# Altium footprint library urover.PCBLIB: 175 footprints (part 10 of 11)
Each footprint in its own frame and in the unit in brackets; x right, y up, seen from the top. Pads: shape width x height; smd on the part's side, far side on the other; paste and mask are expansions set on the pad; w line width, h text height; cw(c..) or ccw(c..) is an arc to the next point about the centre after c.
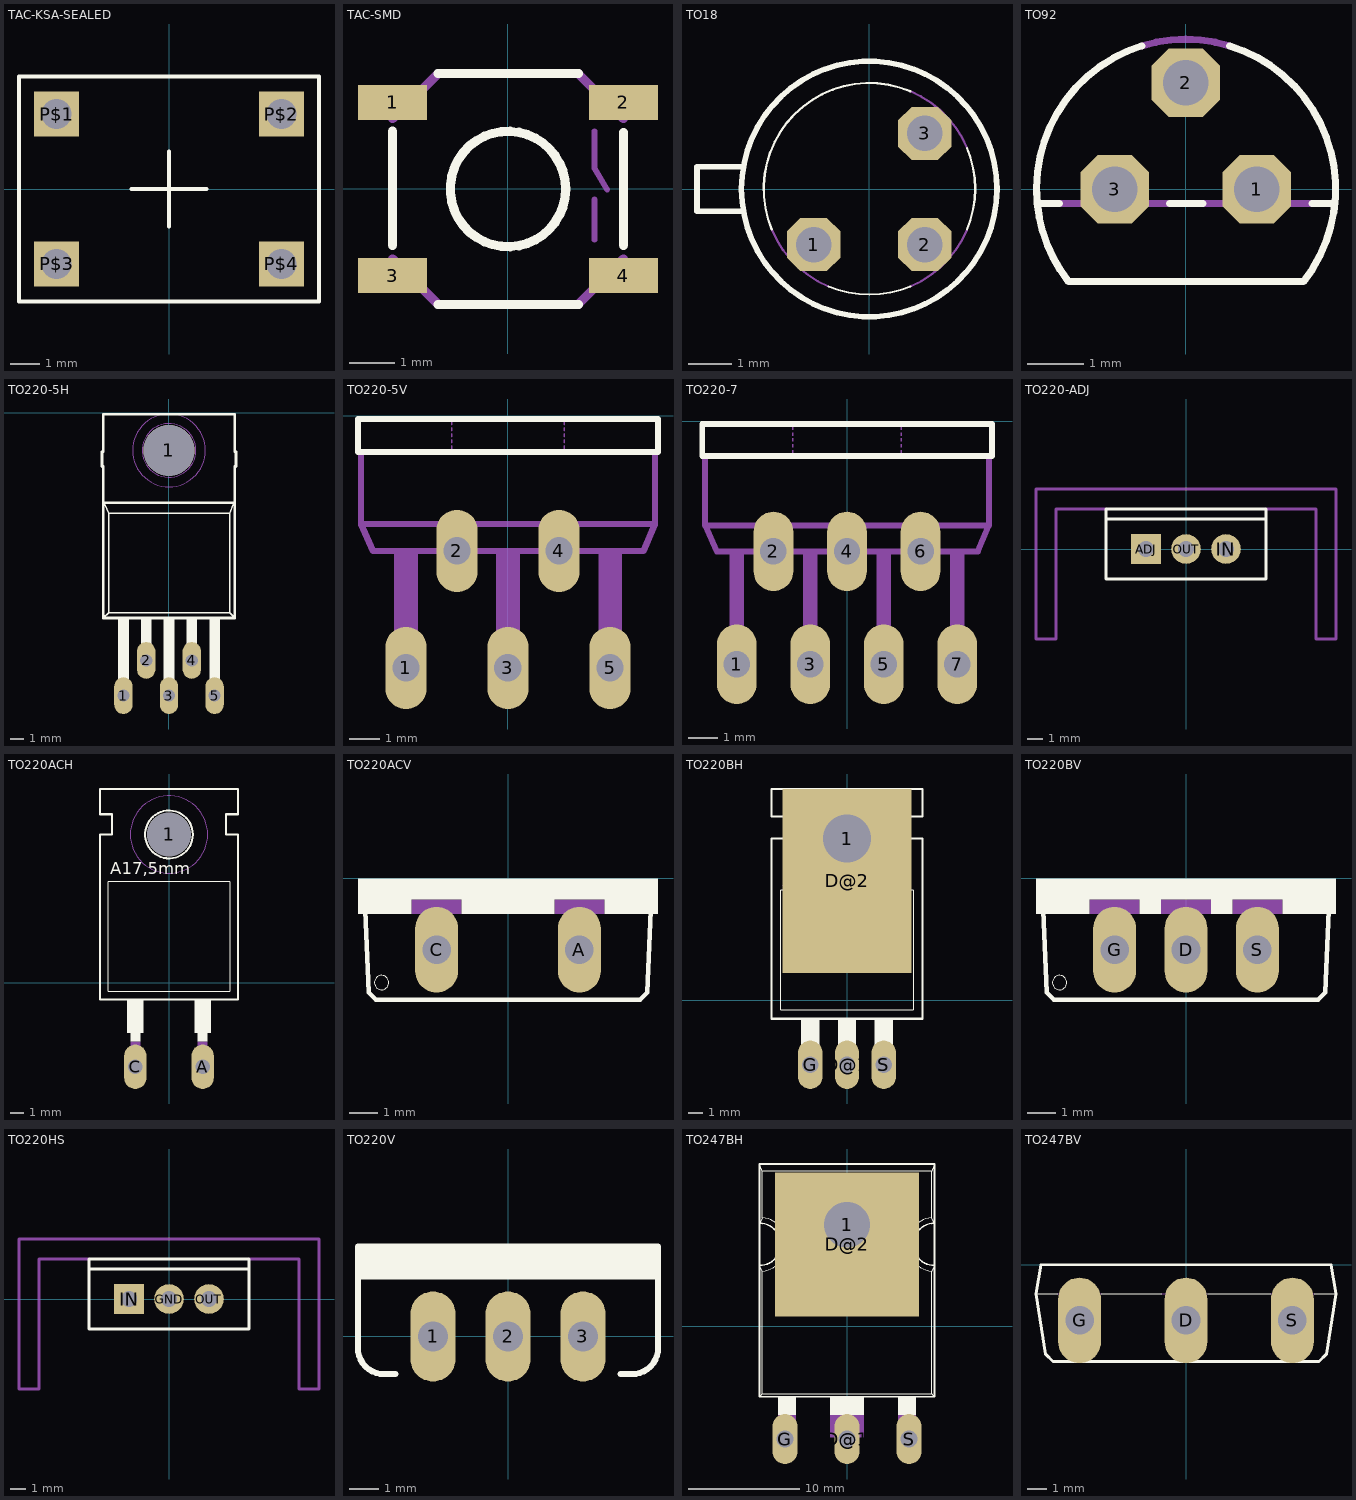
[diagram p9: the footprints below, top view; thin cyan lines are the x and y axes]

## TAC-KSA-SEALED [mil]
pads (4):
  rect 60x60 hole 40: P$1(-150,100) P$2(150,100) P$3(-150,-100) P$4(150,-100)
Top Overlay:
  lines w5: -50,0 50,0 ; 0,-50 0,50 ; -200,-150 200,-150 200,150 -200,150 -200,-150

## TAC-SMD [mil]
pads (4):
  rect 60x30 smd: 1(-100,75) 2(100,75) 3(-100,-75) 4(100,-75)
Top Overlay:
  circle w8: c0,0 r50
  lines w8: -100,-48.82 -100,50 ; -60.63,-100 61,-100 ; -60.63,100 61,100 ; 100,-48.82 100,49
Mechanical 16:
  lines w5: 75,-43.9 75,-9.06 ; 75,50 75,18 86,-0.39
  lines w8: -100,-60.63 -60.63,-100 ; -100,61 -60.63,100 ; 61,-100 100,-60.63 ; 61,100 100,61

## TO18 [mil]
pads (3):
  oct 48x48 hole 32: 1(-50,-50) 2(50,-50) 3(50,50)
Top Overlay:
  circle w5: c0,0 r115
  lines w2: -87.68,-36.57 cw(c0.28,0.07) 37,88 ; -36.57,-87.68 ccw(c0.21,0.51) 37,-87.68 ; 88,-36.57 ccw(c-0.19,0.21) 88,37
  lines w5: -113.25,-20 -155,-20 -155,20 -113.25,20
Mechanical 16:
  lines w2: -87.68,-36.57 ccw(c0,0) -36.57,-87.68 ; 37,-87.68 ccw(c0.38,-0.13) 88,-36.57 ; 37,88 cw(c0.51,0.51) 88,37
  text "1" at -75,-50 h77.5
  text "2" at 25,-50 h77.5
  text "3" at 0,25 h77.5

## TO92 [mil]
pads (3):
  oct 48x48 hole 32: 1(50,0) 2(0,75) 3(-50,0)
Top Overlay:
  lines w5: -88.73,-10 -104.52,-10 ; -30.96,101 ccw(c0.41,0.33) -104.52,-10 ; -11.27,-10 12,-10 ; 31,101 cw(c0.06,0.16) 83,-65 -82.46,-65 cw(c0,0) -104.52,-10 ; 89,-10 105,-10
Mechanical 16:
  lines w5: -88.73,-10 -11.27,-10 ; -30.96,101 cw(c0.02,0.6) 31,101 ; 12,-10 89,-10
  text "2" at -25,25 h77.5
  text "3" at -85,0 h77.5
  text "1" at 45,0 h77.5

## TO220-5H [mil]
pads (6):
  oval 54x108 hole 36: 1(-133.86,-830.71) 2(-66.93,-727.17) 3(0,-830.71) 4(67,-727.17) 5(134,-830.71)
  round 150 hole 150: 1(0,-110.24)
Top Overlay:
  rectangle: -149.61,-791.34 -118.11,-602.36
  rectangle: -82.68,-688.98 -51.18,-602.36
  rectangle: -15.75,-791.34 16,-602.36
  rectangle: 52,-688.98 83,-602.36
  rectangle: 119,-791.34 150,-602.36
  lines w4: -192.91,-602.36 -177.17,-586.61 ; -188.98,-267.72 -177.17,-295.28 ; 189,-267.72 178,-295.28 ; 193,-602.36 178,-586.61 ; -177.17,-586.61 178,-586.61 ; -177.17,-586.61 -177.17,-295.28 ; -177.17,-295.28 178,-295.28 ; 178,-586.61 178,-295.28
  lines w8: -196.85,-157.48 -196.85,-114.17 ; -192.91,-157.48 -192.91,-263.78 ; -192.91,-114.17 -192.91,-3.94 193,-3.94 193,-114.17 ; 193,-157.48 193,-263.78 ; 197,-157.48 197,-114.17 ; -192.91,-263.78 -192.91,-602.36 193,-602.36 193,-263.78 ; -192.91,-263.78 193,-263.78
Mechanical 8:
  circle w0: c0,-110.24 r79
Mechanical 9:
  circle w0: c0,-110.24 r79
Mechanical 10:
  circle w0: c0,-110.24 r107
Mechanical 16:
  rectangle: -149.61,-838.58 -118.11,-791.34
  rectangle: -82.68,-736.22 -51.18,-688.98
  rectangle: -15.75,-838.58 16,-791.34
  rectangle: 52,-736.22 83,-688.98
  rectangle: 119,-838.58 150,-791.34

## TO220-5V [mil]
pads (5):
  oval 54x108 hole 36: 1(-133.86,-330.71) 2(-66.93,-177.17) 3(0,-330.71) 4(67,-177.17) 5(134,-330.71)
Top Overlay:
  lines w8: -196.85,-47.24 -196.85,-3.94 197,-3.94 197,-47.24 -196.85,-47.24
Mechanical 16:
  rectangle: -149.61,-338.58 -118.11,-295.28
  rectangle: -15.75,-338.58 16,-295.28
  rectangle: 119,-338.58 150,-295.28
  rectangle: -149.61,-295.28 -118.11,-177.17
  rectangle: -15.75,-295.28 16,-177.17
  rectangle: 119,-295.28 150,-177.17
  rectangle: -82.68,-185.04 -51.18,-177.17
  rectangle: 52,-185.04 83,-177.17
  lines w2: -73.62,-46.06 -73.62,-39.37 ; -73.62,-35.43 -73.62,-31.5 ; -73.62,-27.56 -73.62,-23.62 ; -73.62,-19.68 -73.62,-15.75 ; -73.62,-11.81 -73.62,-7.87 ; 74,-46.06 74,-39.37 ; 74,-35.43 74,-31.5 ; 74,-27.56 74,-23.62 ; 74,-19.68 74,-15.75 ; 74,-11.81 74,-7.87
  lines w8: -192.91,-47.24 -192.91,-141.73 ; 193,-47.24 193,-141.73 ; -192.91,-141.73 -177.17,-177.17 178,-177.17 193,-141.73 ; -192.91,-141.73 193,-141.73

## TO220-7 [mil]
pads (7):
  oval 54x108 hole 36: 1(-150,-330.71) 2(-100,-177.17) 3(-50,-330.71) 4(0,-177.17) 5(50,-330.71) 6(100,-177.17) 7(150,-330.71)
Top Overlay:
  lines w8: -196.85,-47.24 -196.85,-3.94 197,-3.94 197,-47.24 -196.85,-47.24
Mechanical 16:
  rectangle: -160,-338.58 -140,-295.28
  rectangle: -60,-338.58 -40,-295.28
  rectangle: 40,-338.58 60,-295.28
  rectangle: -160,-295.28 -140,-177.17
  rectangle: -60,-295.28 -40,-177.17
  rectangle: 40,-295.28 60,-177.17
  rectangle: -110,-185.04 -90,-177.17
  rectangle: -10,-185.04 10,-177.17
  rectangle: 90,-185.04 110,-177.17
  rectangle: 140,-295.28 160,-177.17
  rectangle: 140,-338.58 160,-295.28
  lines w2: -73.62,-46.06 -73.62,-39.37 ; -73.62,-35.43 -73.62,-31.5 ; -73.62,-27.56 -73.62,-23.62 ; -73.62,-19.68 -73.62,-15.75 ; -73.62,-11.81 -73.62,-7.87 ; 74,-46.06 74,-39.37 ; 74,-35.43 74,-31.5 ; 74,-27.56 74,-23.62 ; 74,-19.68 74,-15.75 ; 74,-11.81 74,-7.87
  lines w8: -192.91,-47.24 -192.91,-141.73 ; 193,-47.24 193,-141.73 ; -192.91,-141.73 -177.17,-177.17 178,-177.17 193,-141.73 ; -192.91,-141.73 193,-141.73

## TO220-ADJ [mil]
pads (3):
  rect 74x74 hole 40: ADJ(-100,0)
  round 74 hole 40: IN(100,0) OUT(0,0)
Top Overlay:
  lines w8: -200,75 -200,-75 200,-75 200,75 ; -200,75 -200,100 200,100 200,75 ; -200,75 200,75
Mechanical 16:
  lines w8: -200,100 -325,100 -325,-225 -375,-225 -375,150 375,150 375,-225 325,-225 325,100 200,100

## TO220ACH [mil]
pads (3):
  round 130 hole 130: 1(0,440)
  oval 66x132 hole 44: A(100,-250) C(-100,-250)
Top Overlay:
  circle w6: c0,440 r71
  rectangle: 85,-175 115,-150
  rectangle: -115,-175 -85,-150
  rectangle: -125,-150 -75,-50
  rectangle: 75,-150 125,-50
  lines w2: -180,-25 180,-25 180,300 -180,300 -180,-25
  lines w6: -205,-50 205,-50 205,440 170,440 170,500 205,500 205,575 -205,575 -205,500 -170,500 -170,440 -205,440 -205,-50
  text "A17,5mm" at -175,310 h60.45
Mechanical 9:
  circle w0: c0,440 r115
Mechanical 10:
  circle w0: c0,440 r115
Mechanical 16:
  rectangle: 85,-250 115,-175
  rectangle: -115,-250 -85,-175

## TO220ACV [mil]
pads (2):
  oval 60x120 hole 40: A(100,-100) C(-100,-100)
Top Overlay:
  circle w0: c-177,-146 r10
  rectangle: -210,-30 210,0
  rectangle: -210,-50 -135,-30
  rectangle: 135,-50 210,-30
  rectangle: -65,-50 65,-30
  lines w6: -200,-45 -195,-160 -185,-170 185,-170 195,-160 200,-45
Mechanical 16:
  rectangle: -135,-50 -65,-30
  rectangle: 65,-50 135,-30

## TO220BH [mil]
pads (5):
  round 130 hole 130: 1(0,440)
  oval 66x132 hole 44: D@1(0,-175) G(-100,-175) S(100,-175)
  rect 350x500 smd: D@2(0,325)
Top Overlay:
  circle w6: c0,440 r71
  rectangle: 85,-185 115,-160
  rectangle: -15,-185 15,-160
  rectangle: -115,-185 -85,-160
  rectangle: -125,-160 -75,-50
  rectangle: -25,-160 25,-50
  rectangle: 75,-160 125,-50
  lines w2: -180,-25 180,-25 180,300 -180,300 -180,-25
  lines w6: -205,-50 205,-50 205,440 170,440 170,500 205,500 205,575 -205,575 -205,500 -170,500 -170,440 -205,440 -205,-50
  text "A17,5mm" at -175,310 h27.2

## TO220BV [mil]
pads (3):
  oval 60x120 hole 40: D(0,-100) G(-100,-100) S(100,-100)
Top Overlay:
  circle w0: c-177,-146 r10
  rectangle: -210,-30 210,0
  rectangle: -210,-50 -135,-30
  rectangle: -65,-50 -35,-30
  rectangle: 35,-50 65,-30
  rectangle: 135,-50 210,-30
  lines w6: -200,-45 -195,-160 -185,-170 185,-170 195,-160 200,-45
Mechanical 16:
  rectangle: -135,-50 -65,-30
  rectangle: -35,-50 35,-30
  rectangle: 65,-50 135,-30

## TO220HS [mil]
pads (3):
  round 74 hole 40: GND(0,0) OUT(100,0)
  rect 74x74 hole 40: IN(-100,0)
Top Overlay:
  lines w8: -200,75 -200,-75 200,-75 200,75 ; -200,75 -200,100 200,100 200,75 ; -200,75 200,75
Mechanical 16:
  lines w8: -200,100 -325,100 -325,-225 -375,-225 -375,150 375,150 375,-225 325,-225 325,100 200,100

## TO220V [mil]
pads (3):
  oval 60x120 hole 40: 1(-100,0) 2(0,0) 3(100,0)
Top Overlay:
  rectangle: -200,80 200,120
  lines w8: -150,-50 -165,-50 cw(c-165.83,-15.83) -200,-15 -200,80 ; 150,-50 165,-50 ccw(c165.83,-15.83) 200,-15 200,80 ; -200,80 200,80 ; -200,80 -200,120 200,120 200,80

## TO247BH [mil]
pads (5):
  round 162 hole 162: 1(0,360)
  oval 88.5x177 hole 59: D@1(0,-400) G(-220,-400) S(220,-400)
  rect 510x510 smd: D@2(0,290)
Top Overlay:
  circle w6: c0,360 r75
  rectangle: 180,-315 245,-250
  rectangle: -60,-315 60,-250
  rectangle: -245,-315 -180,-250
  lines w2: -310,-250 -300,-240 ; -310,215 -300,195 ; -310,365 -300,385 ; -310,575 -300,550 ; 310,-250 300,-240 ; 310,215 300,195 ; 310,365 300,385 ; 310,575 300,550 ; -300,-240 300,-240 ; -300,-240 -300,195 ; -300,195 ccw(c-310,290) -300,385 ; -300,385 -300,550 ; -300,550 300,550 ; 300,-240 300,195 ; 300,195 cw(c310,290) 300,385 ; 300,385 300,550
  lines w6: -310,215 -310,-250 310,-250 310,215 ; -310,215 -310,365 ; -310,215 ccw(c-310,290) -310,365 ; -310,365 -310,575 310,575 310,365 ; 310,215 cw(c310,290) 310,365 ; 310,215 310,365
Mechanical 16:
  rectangle: -245,-395 -180,-315
  rectangle: -245,-415 -195,-395
  rectangle: -60,-395 60,-315
  rectangle: -25,-415 25,-395
  rectangle: 180,-395 245,-315
  rectangle: 195,-415 245,-395

## TO247BV [mil]
pads (3):
  oval 88.5x177 hole 59: D(0,-115) G(-220,-115) S(220,-115)
Top Overlay:
  lines w2: -310,-60 -265,-60 ; -175,-60 -50,-60 ; 45,-60 175,-60 ; 265,-60 310,-60
  lines w6: -310,-60 -290,-185 -275,-200 275,-200 290,-185 310,-60 300,0 -300,0 -310,-60
Mechanical 16:
  lines w2: -265,-60 -175,-60 ; -50,-60 45,-60 ; 175,-60 265,-60